# Altium footprint library ARCOM_Special.PcbLib: 37 footprints (part 2 of 3)
Each footprint in its own frame and in the unit in brackets; x right, y up, seen from the top. Pads: shape width x height; smd on the part's side, far side on the other; paste and mask are expansions set on the pad; w line width, h text height; cw(c..) or ccw(c..) is an arc to the next point about the centre after c.
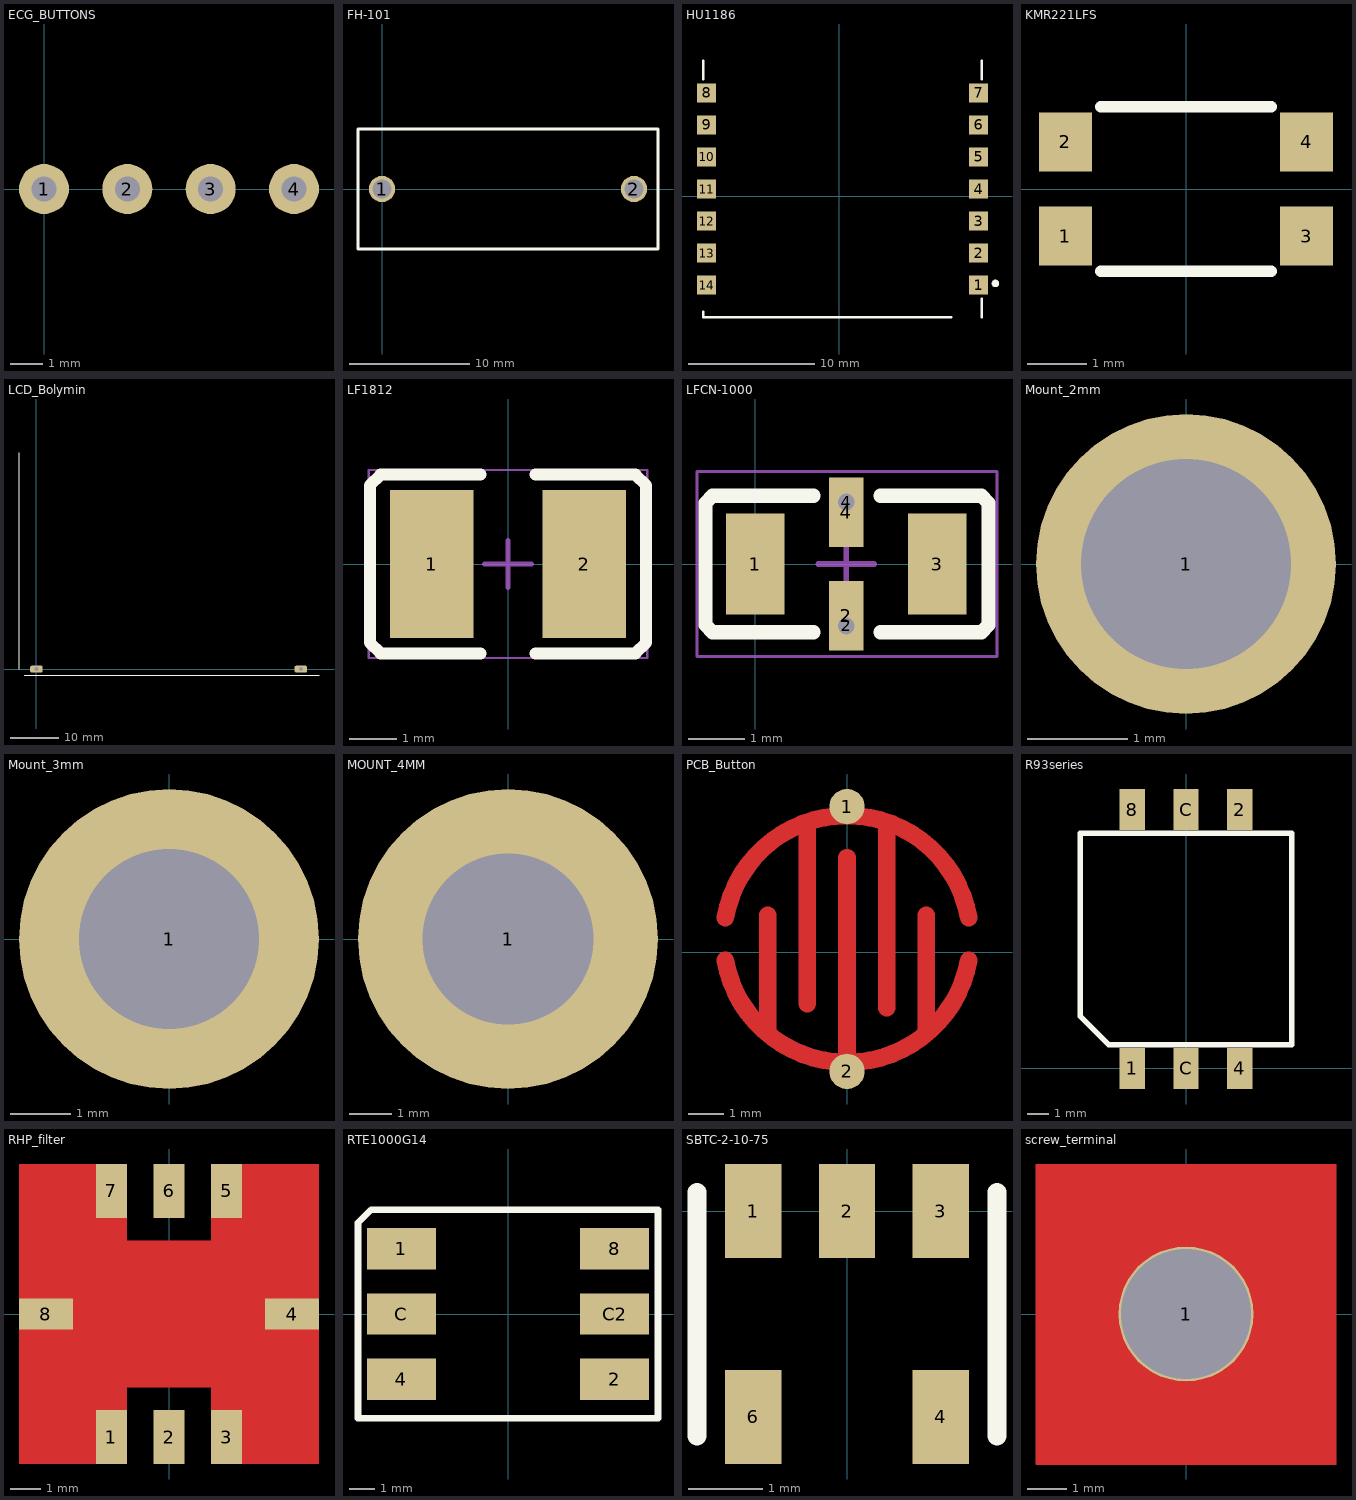
[diagram p1: the footprints below, top view; thin cyan lines are the x and y axes]

## ECG_BUTTONS [mil]
pads (4):
  round 60 hole 30: 1(0,0) 2(100,0) 3(200,0) 4(300,0)

## FH-101 [mm]
pads (2):
  round 2.2 hole 1.6: 1(0,0) 2(21,0)
Top Overlay:
  lines w0.254: -2,-5 23,-5 23,5 -2,5 -2,-5

## HU1186 [mm]
pads (14):
  rect 1.52x1.52 smd: 1(11.043,-7.057) 2(11.043,-4.517) 3(11.043,-1.977) 4(11.043,0.563) 5(11.043,3.103) 6(11.043,5.643) 7(11.043,8.183) 8(-10.547,8.183) 9(-10.547,5.643) 10(-10.547,3.103) 11(-10.547,0.563) 12(-10.547,-1.977) 13(-10.547,-4.517) 14(-10.547,-7.057)
Top Overlay:
  circle w0.35: c12.375,-6.932 r0.125
  lines w0.2: -10.801,-9.187 -10.801,-9.597 8.873,-9.597 ; -10.801,9.262 -10.801,10.723 ; 11.297,-9.597 11.297,-8.137 ; 11.297,9.262 11.297,10.723

## KMR221LFS [mm]
pads (4):
  rect 0.9x1 smd: 1(-2.05,-0.8) 2(-2.05,0.8) 3(2.05,-0.8) 4(2.05,0.8)
Top Overlay:
  lines w0.2: -1.45,-1.4 1.45,-1.4 ; -1.45,1.4 1.45,1.4
3D body "KMR621NG LFS--3DModel-STEP-56544.STEP": height 1.92, standoff 0.02, extent -2.3,-1.4 2.3,1.4

## LCD_Bolymin [mm]
pads (2):
  rrect50% 2.6x1.4 hole 0.8 square: 1(0,0) 2(54.6,0)
Top Overlay:
  lines w0.254: -3.6,0 -3.6,44.7 ; -2.54,-1.27 58.344,-1.27

## LF1812 [mm]
pads (2):
  rect 1.78x3.15 smd: 1(-1.626,0) 2(1.624,0)
Top Overlay:
  lines w0.254: -0.584,-1.905 -2.718,-1.905 -2.946,-1.676 -2.946,0.127 -2.946,1.676 -2.718,1.905 -0.584,1.905 ; 0.584,-1.905 2.718,-1.905 2.946,-1.676 2.946,0.127 2.946,1.676 2.718,1.905 0.584,1.905
M15 Top Assy:
  lines w0.05: -2.972,-2.007 -2.972,2.007 2.972,2.007 2.972,-2.007 -2.972,-2.007
  lines w0.1: -0.5,0 0.5,0 ; 0,-0.5 0,0.5
3D body "Fuse.STEP": height 0.79, standoff 0.08, extent -2.391,-1.699 2.339,1.711

## LFCN-1000 [mm]
pads (6):
  rect 1.04x1.8 smd paste-25.4: 1(0,0) 3(3.25,0)
  rect 0.61x1.245 smd paste-25.4: 2(1.625,-0.927) 4(1.625,0.927)
  round 0.381 hole 0.3: 2(1.625,-1.105) 4(1.625,1.105)
Top Overlay:
  lines w0.254: 1.041,-1.219 -0.762,-1.219 -0.889,-1.092 -0.889,0 -0.889,1.092 -0.762,1.219 1.041,1.219 ; 2.235,-1.219 4.039,-1.219 4.166,-1.092 4.166,0 4.166,1.092 4.039,1.219 2.235,1.219
M15 Top Assy:
  lines w0.05: -1.041,-1.651 4.318,-1.651 4.318,1.651 -1.041,1.651 -1.041,-1.651
  lines w0.1: 1.126,0 2.126,0 ; 1.626,-0.5 1.626,0.5
3D body: height 0.94, standoff 0, extent 0.533,-0.838 2.743,0.838
3D body: height 0.94, standoff 0, extent 0,-0.838 0.533,0.838
3D body: height 0.94, standoff 0, extent 2.743,-0.838 3.277,0.838
3D body: height 0.94, standoff 0, extent 1.321,-0.838 1.93,-0.635
3D body: height 0.94, standoff 0, extent 1.32,0.635 1.929,0.838

## Mount_2mm [mm]
pads (1):
  round 3 hole 2.1: 1(0,0)

## Mount_3mm [mm]
pads (1):
  round 5 hole 3: 1(0,0)

## MOUNT_4MM [mm]
pads (1):
  round 7 hole 4: 1(0,0)

## PCB_Button [mm]
pads (2):
  round 1 smd paste-25.4: 1(0,4.131) 2(0,-3.369)
Top Layer:
  lines w0.5: -3.447,-0.227 ccw(c0,0.381) 3.447,-0.227 ; -3.447,0.989 cw(c0,0.381) 3.447,0.989 ; -2.25,-2.196 -2.25,1.054 ; -1.125,-1.446 -1.125,3.679 ; 0,-3.071 0,2.679 ; 1.125,-1.571 1.125,3.679 ; 2.25,-2.196 2.25,1.054
Top Solder:
  circle w5: c0,0.381 r1.25

## R93series [mm]
pads (6):
  rect 1.2x1.95 smd: 1(-2.54,0) 2(2.54,12.25) 4(2.54,0) 8(-2.54,12.25) C(0,0) C(0,12.25)
Top Overlay:
  lines w0.254: -5,2.46 -3.665,1.125 5,1.125 5,11.125 -5,11.125 -5,2.46

## RHP_filter [mm]
pads (8):
  rect 1.02x1.78 smd paste-25.4: 1(-1.905,-4.065) 2(0,-4.065) 3(1.905,-4.065) 5(1.905,4.065) 6(0,4.065) 7(-1.905,4.065)
  rect 1.78x1.02 smd paste-25.4: 4(4.065,0) 8(-4.065,0)
Top Layer:
  region: -4.953,-4.953 -1.397,-4.953 -1.397,-2.413 1.397,-2.413 1.397,-4.953 4.953,-4.953 4.953,4.953 1.397,4.953 1.397,2.413 -1.397,2.413 -1.397,4.953 -4.953,4.953

## RTE1000G14 [mm]
pads (6):
  rect 2.7x1.6 smd: 1(-4.15,2.54) 2(4.15,-2.54) 4(-4.15,-2.54) 8(4.15,2.54) C(-4.15,0) C2(4.15,0)
Top Overlay:
  lines w0.254: -5.842,-4.064 5.842,-4.064 5.842,4.064 -5.334,4.064 -5.842,3.556 -5.842,-4.064
3D body "SH_7050TB.STEP": height 3.78, standoff 0.01, extent -5,-3.65 5,3.65

## SBTC-2-10-75 [mm]
pads (5):
  rect 0.76x1.27 smd: 1(-1.27,0) 2(0,0) 3(1.27,0) 4(1.27,-2.79) 6(-1.27,-2.79)
Top Overlay:
  lines w0.254: -2.032,-3.048 -2.032,0.254 ; 2.032,-3.048 2.032,0.254

## screw_terminal [mil]
pads (1):
  round 135 hole 130: 1(0,0)
Top Layer:
  region: -150,-150 150,-150 150,150 -150,150
  lines w1: -150,-150 -150,150 150,150 150,-150 -150,-150